# EAGLE library part DS1077 (library mbed-ics)
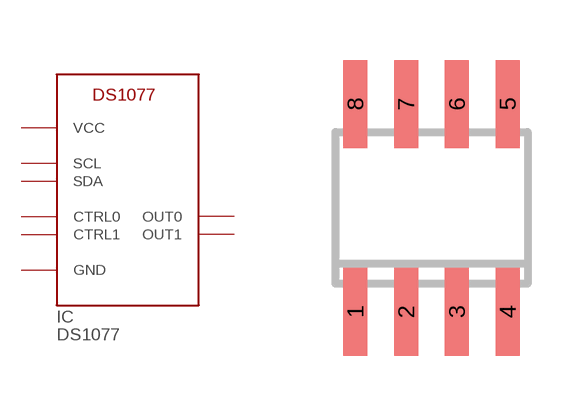
[diagram p15: symbol with the pads of SO08; footprint SO08]

Designator prefix IC

## DS1077  [SO08]
1  OUT1
2  OUT0
3  VCC
4  GND
5  CTRL0
6  CTRL1
7  SDA
8  SCL

## Footprint SO08 (pad centres in mm)
Small Outline Package 8 NS Package M08A
smd 0.6 x 2.2: 1 -1.905,-2.6; 2 -0.635,-2.6; 3 0.635,-2.6; 4 1.905,-2.6; 5 1.905,2.6; 6 0.635,2.6; 7 -0.635,2.6; 8 -1.905,2.6